# Altium schematic symbol library Schlib1.SchLib: 3 symbols
Pins are listed as number, name and electrical type; pins without a type are passive.

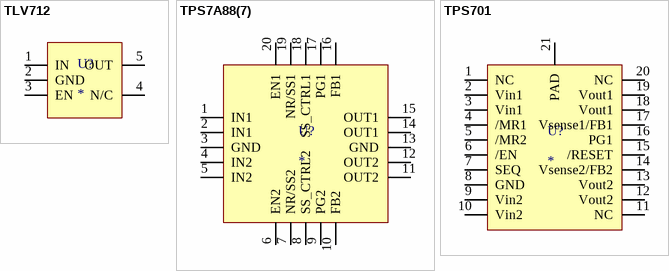
[diagram p0: symbols TLV712 to TPS701]

## TLV712
designator U?
footprint TLV712 (SOT23, 5-Leads, Body 2.90x2.80mm, Pitch 0.95mm, IPC Medium Density)
pins: 1 IN, 2 GND, 3 EN, 4 N/C, 5 OUT

## TPS7A88(7)
designator U?
footprint TPS7A88(7) (QFN, 20-Leads, Body 4.00x4.00mm, Pitch 0.50mm, Thermal Pad 2.70x2.70mm, IPC Medium Density)
pins: 1 IN1, 2 IN1, 3 GND, 4 IN2, 5 IN2, 6 EN2, 7 NR/SS2, 8 SS_CTRL2, 9 PG2, 10 FB2, 11 OUT2, 12 OUT2, 13 GND, 14 OUT1, 15 OUT1, 16 FB1, 17 PG1, 18 SS_CTRL1, 19 NR/SS1, 20 EN1

## TPS701
designator U?
footprint TPS701 (TSOP, 20-Leads, Body 6.50x4.40mm, Pitch 0.65mm, Thermal Pad 3.40.2x2.40.2mm, IPC Medium Density)
pins: 1 NC, 2 Vin1, 3 Vin1, 4 /MR1, 5 /MR2, 6 /EN, 7 SEQ, 8 GND, 9 Vin2, 10 Vin2, 11 NC, 12 Vout2, 13 Vout2, 14 Vsense2/FB2, 15 /RESET, 16 PG1, 17 Vsense1/FB1, 18 Vout1, 19 Vout1, 20 NC, 21 PAD